# Altium schematic symbol library MCU_Microchip_PIC32.SchLib: 17 symbols
Pins are listed as number, name and electrical type; pins without a type are passive.

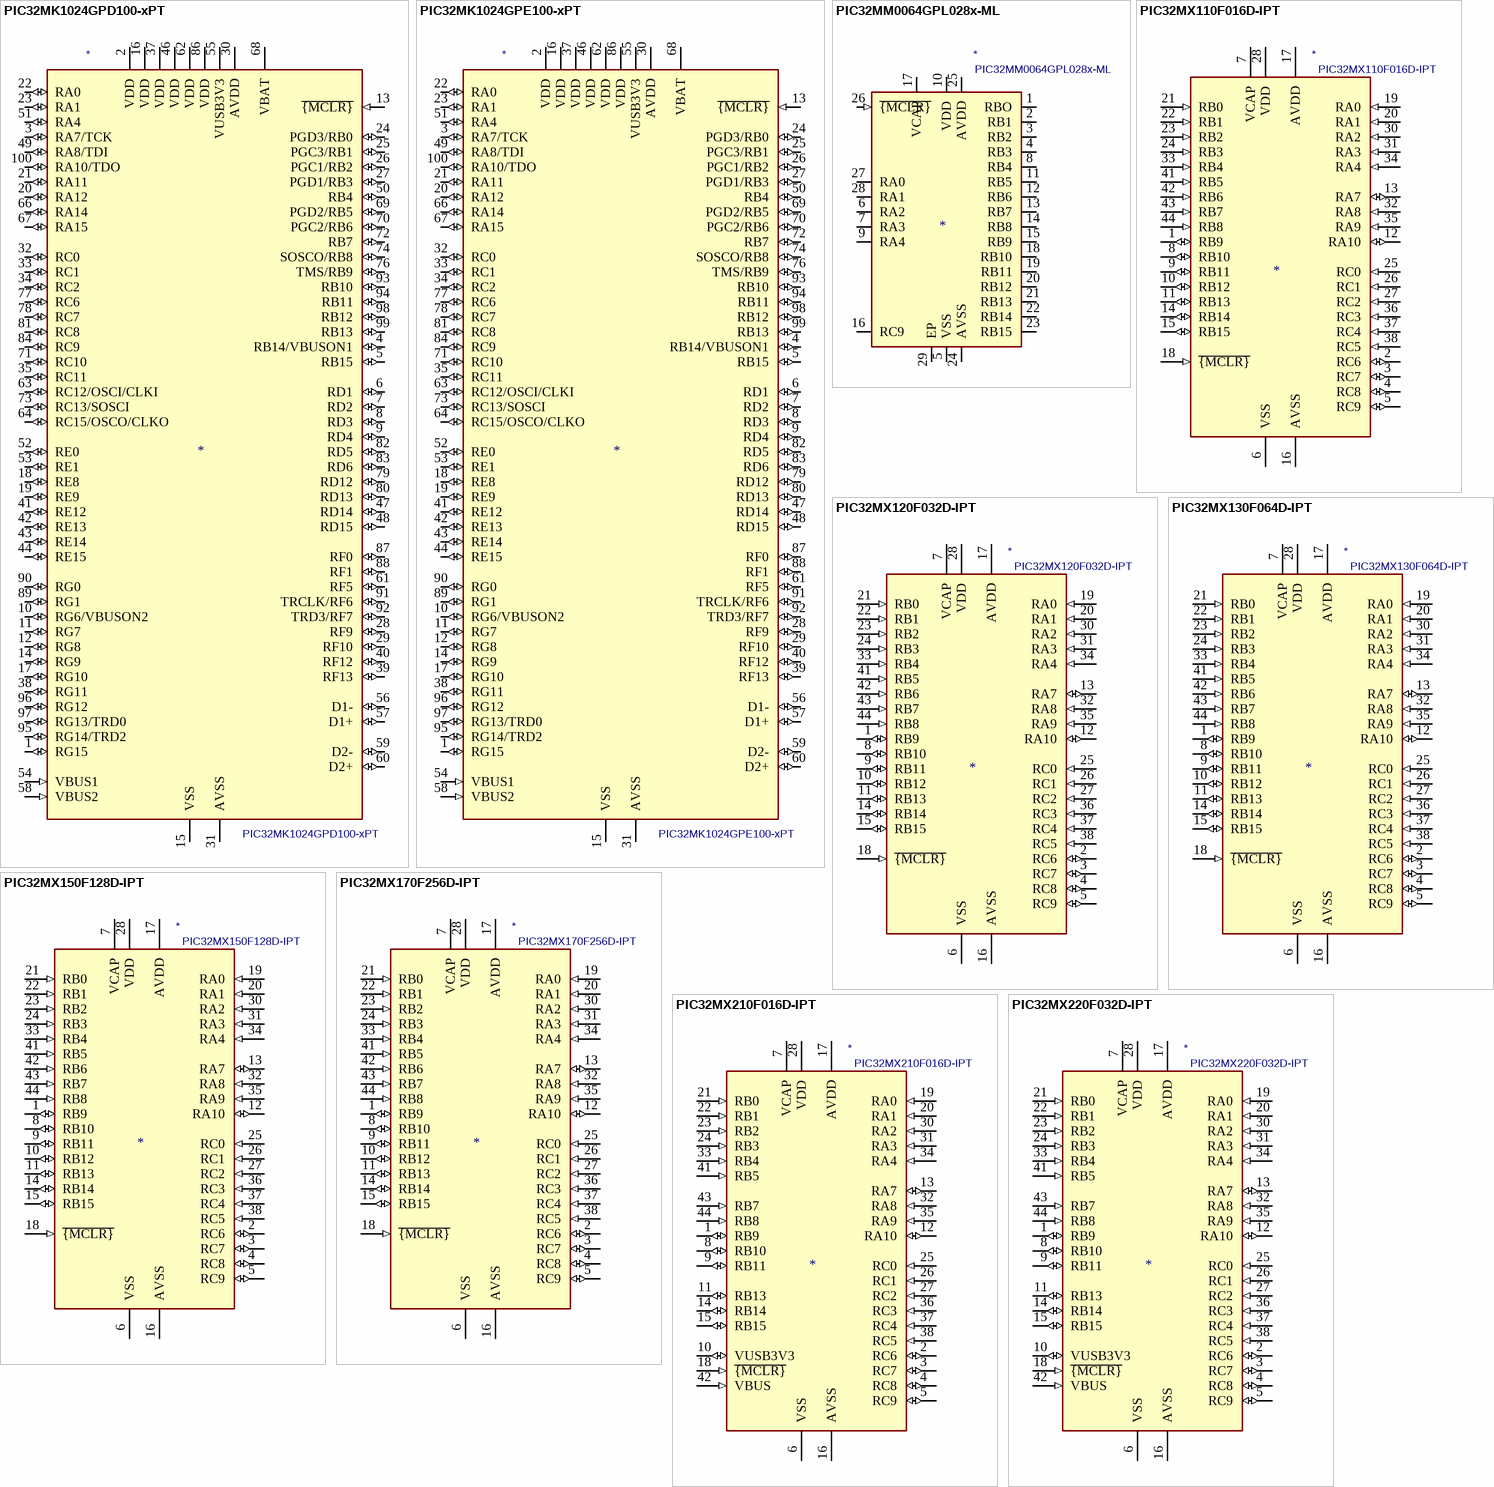
[diagram p0: symbols PIC32MK1024GPD100-xPT to PIC32MX220F032D-IPT]

## PIC32MK1024GPD100-xPT
designator *  value PIC32MK1024GPD100-xPT
ki_keywords: 32-bit MIPS MCU Microcontroller; ki_description: MIPS MCU, 120MHz, 1MB Flash, 256KB RAM, 2.3-3.6V, USB, TQFP-100; ki_fp_filters: TQFP*12x12mm*P0.4mm*; Footprint: Package_QFP:TQFP-100_12x12mm_P0.4mm; Supplier: http://ww1.microchip.com/downloads/en/DeviceDoc/PIC32MK_GP_MC_Familly_Datasheet_60001402G.pdf
footprint TQFP-100_12x12mm_P0.4mm
pins: 1 RG15 (io), 2 VDD (power), 3 RA7/TCK (io), 4 RB14/VBUSON1 (io), 5 RB15 (io), 6 RD1 (io), 7 RD2 (io), 8 RD3 (io), 9 RD4 (io), 10 RG6/VBUSON2 (io), 11 RG7 (io), 12 RG8 (io), 13 ~{{MCLR}} (in), 14 RG9 (io), 15 VSS (power), 16 VDD (power), 17 RG10 (io), 18 RE8 (io), 19 RE9 (io), 20 RA12 (io), 21 RA11 (io), 22 RA0 (io), 23 RA1 (io), 24 PGD3/RB0 (io), 25 PGC3/RB1 (io), 26 PGC1/RB2 (io), 27 PGD1/RB3 (io), 28 RF9 (io), 29 RF10 (io), 30 AVDD (power), 31 AVSS (power), 32 RC0 (io), 33 RC1 (io), 34 RC2 (io), 35 RC11 (io), 36 VSS hidden, 37 VDD (power), 38 RG11 (io), 39 RF13 (io), 40 RF12 (io), 41 RE12 (io), 42 RE13 (io), 43 RE14 (io), 44 RE15 (io), 45 VSS hidden, 46 VDD (power), 47 RD14 (io), 48 RD15 (io), 49 RA8/TDI (io), 50 RB4 (io), 51 RA4 (io), 52 RE0 (io), 53 RE1 (io), 54 VBUS1 (in), 55 VUSB3V3 (power), 56 D1- (io), 57 D1+ (io), 58 VBUS2 (in), 59 D2- (io), 60 D2+ (io), 61 RF5 (io), 62 VDD (power), 63 RC12/OSCI/CLKI (io), 64 RC15/OSCO/CLKO (io), 65 VSS hidden, 66 RA14 (io), 67 RA15 (io), 68 VBAT (power), 69 PGD2/RB5 (io), 70 PGC2/RB6 (io), 71 RC10 (io), 72 RB7 (io), 73 RC13/SOSCI (io), 74 SOSCO/RB8 (io), 75 VSS hidden, 76 TMS/RB9 (io), 77 RC6 (io), 78 RC7 (io), 79 RD12 (io), 80 RD13 (io), 81 RC8 (io), 82 RD5 (io), 83 RD6 (io), 84 RC9 (io), 85 VSS hidden, 86 VDD (power), 87 RF0 (io), 88 RF1 (io), 89 RG1 (io), 90 RG0 (io), 91 TRCLK/RF6 (io), 92 TRD3/RF7 (io), 93 RB10 (io), 94 RB11 (io), 95 RG14/TRD2 (io), 96 RG12 (io), 97 RG13/TRD0 (io), 98 RB12 (io), 99 RB13 (io), 100 RA10/TDO (io)

## PIC32MK1024GPE100-xPT
designator *  value PIC32MK1024GPE100-xPT
ki_keywords: 32-bit MIPS MCU Microcontroller; ki_description: MIPS MCU, 120MHz, 1MB Flash, 256KB RAM, 2.3-3.6V, USB, TQFP-100; ki_fp_filters: TQFP*12x12mm*P0.4mm*; Footprint: Package_QFP:TQFP-100_12x12mm_P0.4mm; Supplier: http://ww1.microchip.com/downloads/en/DeviceDoc/PIC32MK_GP_MC_Familly_Datasheet_60001402G.pdf
footprint TQFP-100_12x12mm_P0.4mm
pins: 1 RG15 (io), 2 VDD (power), 3 RA7/TCK (io), 4 RB14/VBUSON1 (io), 5 RB15 (io), 6 RD1 (io), 7 RD2 (io), 8 RD3 (io), 9 RD4 (io), 10 RG6/VBUSON2 (io), 11 RG7 (io), 12 RG8 (io), 13 ~{{MCLR}} (in), 14 RG9 (io), 15 VSS (power), 16 VDD (power), 17 RG10 (io), 18 RE8 (io), 19 RE9 (io), 20 RA12 (io), 21 RA11 (io), 22 RA0 (io), 23 RA1 (io), 24 PGD3/RB0 (io), 25 PGC3/RB1 (io), 26 PGC1/RB2 (io), 27 PGD1/RB3 (io), 28 RF9 (io), 29 RF10 (io), 30 AVDD (power), 31 AVSS (power), 32 RC0 (io), 33 RC1 (io), 34 RC2 (io), 35 RC11 (io), 36 VSS hidden, 37 VDD (power), 38 RG11 (io), 39 RF13 (io), 40 RF12 (io), 41 RE12 (io), 42 RE13 (io), 43 RE14 (io), 44 RE15 (io), 45 VSS hidden, 46 VDD (power), 47 RD14 (io), 48 RD15 (io), 49 RA8/TDI (io), 50 RB4 (io), 51 RA4 (io), 52 RE0 (io), 53 RE1 (io), 54 VBUS1 (in), 55 VUSB3V3 (power), 56 D1- (io), 57 D1+ (io), 58 VBUS2 (in), 59 D2- (io), 60 D2+ (io), 61 RF5 (io), 62 VDD (power), 63 RC12/OSCI/CLKI (io), 64 RC15/OSCO/CLKO (io), 65 VSS hidden, 66 RA14 (io), 67 RA15 (io), 68 VBAT (power), 69 PGD2/RB5 (io), 70 PGC2/RB6 (io), 71 RC10 (io), 72 RB7 (io), 73 RC13/SOSCI (io), 74 SOSCO/RB8 (io), 75 VSS hidden, 76 TMS/RB9 (io), 77 RC6 (io), 78 RC7 (io), 79 RD12 (io), 80 RD13 (io), 81 RC8 (io), 82 RD5 (io), 83 RD6 (io), 84 RC9 (io), 85 VSS hidden, 86 VDD (power), 87 RF0 (io), 88 RF1 (io), 89 RG1 (io), 90 RG0 (io), 91 TRCLK/RF6 (io), 92 TRD3/RF7 (io), 93 RB10 (io), 94 RB11 (io), 95 RG14/TRD2 (io), 96 RG12 (io), 97 RG13/TRD0 (io), 98 RB12 (io), 99 RB13 (io), 100 RA10/TDO (io)

## PIC32MM0064GPL028x-ML
designator *  value PIC32MM0064GPL028x-ML
ki_keywords: FLASH-Based 32-Bit CMOS Microcontroller; ki_description: 32-Bit Flash MCU, 25MHz, 64KB Flash, 8KB RAM, QFN-28; ki_fp_filters: QFN*1EP*6x6mm*P0.65mm*; Footprint: Package_DFN_QFN:QFN-28-1EP_6x6mm_P0.65mm_EP4.25x4.25mm; Supplier: http://ww1.microchip.com/downloads/en/DeviceDoc/PIC32MM0064GPL036-Family-Data-Sheet-DS60001324C.pdf
footprint QFN-28-1EP_6x6mm_P0.65mm_EP4.25x4.25mm
pins: 1 RBO (io), 2 RB1 (io), 3 RB2 (io), 4 RB3 (io), 5 VSS (power), 6 RA2 (io), 7 RA3 (io), 8 RB4 (io), 9 RA4 (io), 10 VDD (power), 11 RB5 (io), 12 RB6 (io), 13 RB7 (io), 14 RB8 (io), 15 RB9 (io), 16 RC9 (io), 17 VCAP (power), 18 RB10 (io), 19 RB11 (io), 20 RB12 (io), 21 RB13 (io), 22 RB14 (io), 23 RB15 (io), 24 AVSS (power), 25 AVDD (power), 26 ~{{MCLR}} (in), 27 RA0 (io), 28 RA1 (io), 29 EP

## PIC32MX110F016D-IPT
designator *  value PIC32MX110F016D-IPT
ki_keywords: Microchip PIC32 Microcontroller MIPS; ki_description: 32-bit Microcontrollers (16KB Flash and 4KB SRAM TQFP-44) with Audio and Graphics Interfaces, USB, and Advanced Analog; ki_fp_filters: TQFP*10x10mm*P0.8mm*; Footprint: Package_QFP:TQFP-44_10x10mm_P0.8mm; Supplier: http://ww1.microchip.com/downloads/en/DeviceDoc/60001168F.pdf
footprint TQFP-44_10x10mm_P0.8mm
pins: 1 RB9 (io), 2 RC6 (io), 3 RC7 (io), 4 RC8 (io), 5 RC9 (io), 6 VSS (power), 7 VCAP (power), 8 RB10 (io), 9 RB11 (io), 10 RB12 (io), 11 RB13 (io), 12 RA10 (io), 13 RA7 (io), 14 RB14 (io), 15 RB15 (io), 16 AVSS (power), 17 AVDD (power), 18 ~{{MCLR}} (in), 19 RA0 (in), 20 RA1 (in), 21 RB0 (in), 22 RB1 (in), 23 RB2 (in), 24 RB3 (in), 25 RC0 (in), 26 RC1 (in), 27 RC2 (in), 28 VDD (power), 29 VSS hidden, 30 RA2 (in), 31 RA3 (in), 32 RA8 (in), 33 RB4 (in), 34 RA4 (in), 35 RA9 (in), 36 RC3 (in), 37 RC4 (in), 38 RC5 (in), 39 VSS hidden, 40 VDD hidden, 41 RB5 (in), 42 RB6 (in), 43 RB7 (in), 44 RB8 (in)

## PIC32MX120F032D-IPT
designator *  value PIC32MX120F032D-IPT
ki_keywords: Microchip PIC32 Microcontroller MIPS; ki_description: 32-bit Microcontrollers (32KB Flash and 8KB SRAM TQFP-44) with Audio and Graphics Interfaces, USB, and Advanced Analog; ki_fp_filters: TQFP*10x10mm*P0.8mm*; Footprint: Package_QFP:TQFP-44_10x10mm_P0.8mm; Supplier: http://ww1.microchip.com/downloads/en/DeviceDoc/60001168F.pdf
footprint TQFP-44_10x10mm_P0.8mm
pins: 1 RB9 (io), 2 RC6 (io), 3 RC7 (io), 4 RC8 (io), 5 RC9 (io), 6 VSS (power), 7 VCAP (power), 8 RB10 (io), 9 RB11 (io), 10 RB12 (io), 11 RB13 (io), 12 RA10 (io), 13 RA7 (io), 14 RB14 (io), 15 RB15 (io), 16 AVSS (power), 17 AVDD (power), 18 ~{{MCLR}} (in), 19 RA0 (in), 20 RA1 (in), 21 RB0 (in), 22 RB1 (in), 23 RB2 (in), 24 RB3 (in), 25 RC0 (in), 26 RC1 (in), 27 RC2 (in), 28 VDD (power), 29 VSS hidden, 30 RA2 (in), 31 RA3 (in), 32 RA8 (in), 33 RB4 (in), 34 RA4 (in), 35 RA9 (in), 36 RC3 (in), 37 RC4 (in), 38 RC5 (in), 39 VSS hidden, 40 VDD hidden, 41 RB5 (in), 42 RB6 (in), 43 RB7 (in), 44 RB8 (in)

## PIC32MX130F064D-IPT
designator *  value PIC32MX130F064D-IPT
ki_keywords: Microchip PIC32 Microcontroller MIPS; ki_description: 32-bit Microcontrollers (64KB Flash and 16KB SRAM TQFP-44) with Audio and Graphics Interfaces, USB, and Advanced Analog; ki_fp_filters: TQFP*10x10mm*P0.8mm*; Footprint: Package_QFP:TQFP-44_10x10mm_P0.8mm; Supplier: http://ww1.microchip.com/downloads/en/DeviceDoc/60001168F.pdf
footprint TQFP-44_10x10mm_P0.8mm
pins: 1 RB9 (io), 2 RC6 (io), 3 RC7 (io), 4 RC8 (io), 5 RC9 (io), 6 VSS (power), 7 VCAP (power), 8 RB10 (io), 9 RB11 (io), 10 RB12 (io), 11 RB13 (io), 12 RA10 (io), 13 RA7 (io), 14 RB14 (io), 15 RB15 (io), 16 AVSS (power), 17 AVDD (power), 18 ~{{MCLR}} (in), 19 RA0 (in), 20 RA1 (in), 21 RB0 (in), 22 RB1 (in), 23 RB2 (in), 24 RB3 (in), 25 RC0 (in), 26 RC1 (in), 27 RC2 (in), 28 VDD (power), 29 VSS hidden, 30 RA2 (in), 31 RA3 (in), 32 RA8 (in), 33 RB4 (in), 34 RA4 (in), 35 RA9 (in), 36 RC3 (in), 37 RC4 (in), 38 RC5 (in), 39 VSS hidden, 40 VDD hidden, 41 RB5 (in), 42 RB6 (in), 43 RB7 (in), 44 RB8 (in)

## PIC32MX150F128D-IPT
designator *  value PIC32MX150F128D-IPT
ki_keywords: Microchip PIC32 Microcontroller MIPS; ki_description: 32-bit Microcontrollers (128KB Flash and 32KB SRAM TQFP-44) with Audio and Graphics Interfaces, USB, and Advanced Analog; ki_fp_filters: TQFP*10x10mm*P0.8mm*; Footprint: Package_QFP:TQFP-44_10x10mm_P0.8mm; Supplier: http://ww1.microchip.com/downloads/en/DeviceDoc/60001168F.pdf
footprint TQFP-44_10x10mm_P0.8mm
pins: 1 RB9 (io), 2 RC6 (io), 3 RC7 (io), 4 RC8 (io), 5 RC9 (io), 6 VSS (power), 7 VCAP (power), 8 RB10 (io), 9 RB11 (io), 10 RB12 (io), 11 RB13 (io), 12 RA10 (io), 13 RA7 (io), 14 RB14 (io), 15 RB15 (io), 16 AVSS (power), 17 AVDD (power), 18 ~{{MCLR}} (in), 19 RA0 (in), 20 RA1 (in), 21 RB0 (in), 22 RB1 (in), 23 RB2 (in), 24 RB3 (in), 25 RC0 (in), 26 RC1 (in), 27 RC2 (in), 28 VDD (power), 29 VSS hidden, 30 RA2 (in), 31 RA3 (in), 32 RA8 (in), 33 RB4 (in), 34 RA4 (in), 35 RA9 (in), 36 RC3 (in), 37 RC4 (in), 38 RC5 (in), 39 VSS hidden, 40 VDD hidden, 41 RB5 (in), 42 RB6 (in), 43 RB7 (in), 44 RB8 (in)

## PIC32MX170F256D-IPT
designator *  value PIC32MX170F256D-IPT
ki_keywords: Microchip PIC32 Microcontroller MIPS; ki_description: 32-bit Microcontrollers (256KB Flash and 64KB SRAM TQFP-44) with Audio and Graphics Interfaces, USB, and Advanced Analog; ki_fp_filters: TQFP*10x10mm*P0.8mm*; Footprint: Package_QFP:TQFP-44_10x10mm_P0.8mm; Supplier: http://ww1.microchip.com/downloads/en/DeviceDoc/60001168F.pdf
footprint TQFP-44_10x10mm_P0.8mm
pins: 1 RB9 (io), 2 RC6 (io), 3 RC7 (io), 4 RC8 (io), 5 RC9 (io), 6 VSS (power), 7 VCAP (power), 8 RB10 (io), 9 RB11 (io), 10 RB12 (io), 11 RB13 (io), 12 RA10 (io), 13 RA7 (io), 14 RB14 (io), 15 RB15 (io), 16 AVSS (power), 17 AVDD (power), 18 ~{{MCLR}} (in), 19 RA0 (in), 20 RA1 (in), 21 RB0 (in), 22 RB1 (in), 23 RB2 (in), 24 RB3 (in), 25 RC0 (in), 26 RC1 (in), 27 RC2 (in), 28 VDD (power), 29 VSS hidden, 30 RA2 (in), 31 RA3 (in), 32 RA8 (in), 33 RB4 (in), 34 RA4 (in), 35 RA9 (in), 36 RC3 (in), 37 RC4 (in), 38 RC5 (in), 39 VSS hidden, 40 VDD hidden, 41 RB5 (in), 42 RB6 (in), 43 RB7 (in), 44 RB8 (in)

## PIC32MX210F016D-IPT
designator *  value PIC32MX210F016D-IPT
ki_keywords: Microchip PIC32 Microcontroller MIPS; ki_description: 32-bit Microcontrollers (16KB Flash and 4KB SRAM TQFP-44) with Audio and Graphics Interfaces, USB, and Advanced Analog; ki_fp_filters: TQFP*10x10mm*P0.8mm*; Footprint: Package_QFP:TQFP-44_10x10mm_P0.8mm; Supplier: http://ww1.microchip.com/downloads/en/DeviceDoc/60001168F.pdf
footprint TQFP-44_10x10mm_P0.8mm
pins: 1 RB9 (io), 2 RC6 (io), 3 RC7 (io), 4 RC8 (io), 5 RC9 (io), 6 VSS (power), 7 VCAP (power), 8 RB10 (io), 9 RB11 (io), 10 VUSB3V3 (io), 11 RB13 (io), 12 RA10 (io), 13 RA7 (io), 14 RB14 (io), 15 RB15 (io), 16 AVSS (power), 17 AVDD (power), 18 ~{{MCLR}} (in), 19 RA0 (in), 20 RA1 (in), 21 RB0 (in), 22 RB1 (in), 23 RB2 (in), 24 RB3 (in), 25 RC0 (in), 26 RC1 (in), 27 RC2 (in), 28 VDD (power), 29 VSS hidden, 30 RA2 (in), 31 RA3 (in), 32 RA8 (in), 33 RB4 (in), 34 RA4 (in), 35 RA9 (in), 36 RC3 (in), 37 RC4 (in), 38 RC5 (in), 39 VSS hidden, 40 VDD hidden, 41 RB5 (in), 42 VBUS (in), 43 RB7 (in), 44 RB8 (in)

## PIC32MX220F032D-IPT
designator *  value PIC32MX220F032D-IPT
ki_keywords: Microchip PIC32 Microcontroller MIPS; ki_description: 32-bit Microcontrollers (32KB Flash and 8KB SRAM TQFP-44) with Audio and Graphics Interfaces, USB, and Advanced Analog; ki_fp_filters: TQFP*10x10mm*P0.8mm*; Footprint: Package_QFP:TQFP-44_10x10mm_P0.8mm; Supplier: http://ww1.microchip.com/downloads/en/DeviceDoc/60001168F.pdf
footprint TQFP-44_10x10mm_P0.8mm
pins: 1 RB9 (io), 2 RC6 (io), 3 RC7 (io), 4 RC8 (io), 5 RC9 (io), 6 VSS (power), 7 VCAP (power), 8 RB10 (io), 9 RB11 (io), 10 VUSB3V3 (io), 11 RB13 (io), 12 RA10 (io), 13 RA7 (io), 14 RB14 (io), 15 RB15 (io), 16 AVSS (power), 17 AVDD (power), 18 ~{{MCLR}} (in), 19 RA0 (in), 20 RA1 (in), 21 RB0 (in), 22 RB1 (in), 23 RB2 (in), 24 RB3 (in), 25 RC0 (in), 26 RC1 (in), 27 RC2 (in), 28 VDD (power), 29 VSS hidden, 30 RA2 (in), 31 RA3 (in), 32 RA8 (in), 33 RB4 (in), 34 RA4 (in), 35 RA9 (in), 36 RC3 (in), 37 RC4 (in), 38 RC5 (in), 39 VSS hidden, 40 VDD hidden, 41 RB5 (in), 42 VBUS (in), 43 RB7 (in), 44 RB8 (in)

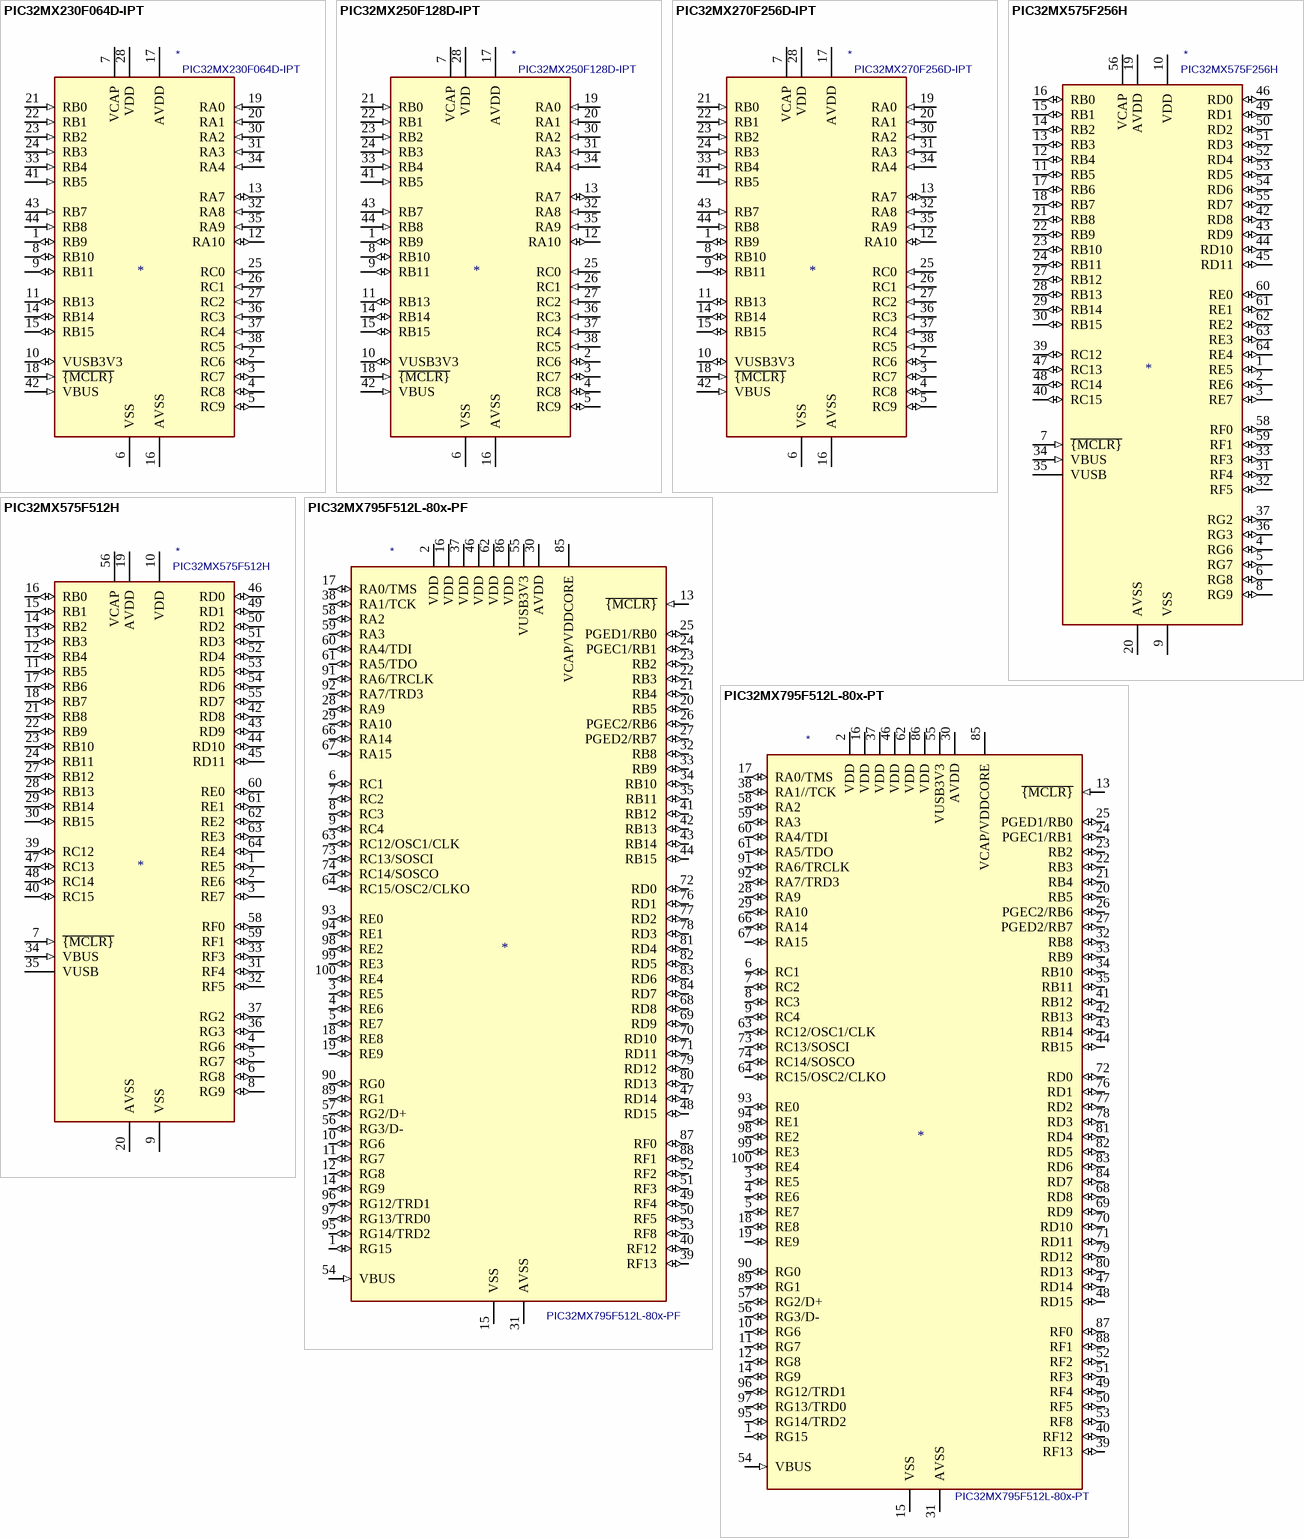
[diagram p1: symbols PIC32MX230F064D-IPT to PIC32MX795F512L-80x-PT]

## PIC32MX230F064D-IPT
designator *  value PIC32MX230F064D-IPT
ki_keywords: Microchip PIC32 Microcontroller MIPS; ki_description: 32-bit Microcontrollers (64KB Flash and 16KB SRAM TQFP-44) with Audio and Graphics Interfaces, USB, and Advanced Analog; ki_fp_filters: TQFP*10x10mm*P0.8mm*; Footprint: Package_QFP:TQFP-44_10x10mm_P0.8mm; Supplier: http://ww1.microchip.com/downloads/en/DeviceDoc/60001168F.pdf
footprint TQFP-44_10x10mm_P0.8mm
pins: 1 RB9 (io), 2 RC6 (io), 3 RC7 (io), 4 RC8 (io), 5 RC9 (io), 6 VSS (power), 7 VCAP (power), 8 RB10 (io), 9 RB11 (io), 10 VUSB3V3 (io), 11 RB13 (io), 12 RA10 (io), 13 RA7 (io), 14 RB14 (io), 15 RB15 (io), 16 AVSS (power), 17 AVDD (power), 18 ~{{MCLR}} (in), 19 RA0 (in), 20 RA1 (in), 21 RB0 (in), 22 RB1 (in), 23 RB2 (in), 24 RB3 (in), 25 RC0 (in), 26 RC1 (in), 27 RC2 (in), 28 VDD (power), 29 VSS hidden, 30 RA2 (in), 31 RA3 (in), 32 RA8 (in), 33 RB4 (in), 34 RA4 (in), 35 RA9 (in), 36 RC3 (in), 37 RC4 (in), 38 RC5 (in), 39 VSS hidden, 40 VDD hidden, 41 RB5 (in), 42 VBUS (in), 43 RB7 (in), 44 RB8 (in)

## PIC32MX250F128D-IPT
designator *  value PIC32MX250F128D-IPT
ki_keywords: Microchip PIC32 Microcontroller MIPS; ki_description: 32-bit Microcontrollers (128KB Flash and 32KB SRAM TQFP-44) with Audio and Graphics Interfaces, USB, and Advanced Analog; ki_fp_filters: TQFP*10x10mm*P0.8mm*; Footprint: Package_QFP:TQFP-44_10x10mm_P0.8mm; Supplier: http://ww1.microchip.com/downloads/en/DeviceDoc/60001168F.pdf
footprint TQFP-44_10x10mm_P0.8mm
pins: 1 RB9 (io), 2 RC6 (io), 3 RC7 (io), 4 RC8 (io), 5 RC9 (io), 6 VSS (power), 7 VCAP (power), 8 RB10 (io), 9 RB11 (io), 10 VUSB3V3 (io), 11 RB13 (io), 12 RA10 (io), 13 RA7 (io), 14 RB14 (io), 15 RB15 (io), 16 AVSS (power), 17 AVDD (power), 18 ~{{MCLR}} (in), 19 RA0 (in), 20 RA1 (in), 21 RB0 (in), 22 RB1 (in), 23 RB2 (in), 24 RB3 (in), 25 RC0 (in), 26 RC1 (in), 27 RC2 (in), 28 VDD (power), 29 VSS hidden, 30 RA2 (in), 31 RA3 (in), 32 RA8 (in), 33 RB4 (in), 34 RA4 (in), 35 RA9 (in), 36 RC3 (in), 37 RC4 (in), 38 RC5 (in), 39 VSS hidden, 40 VDD hidden, 41 RB5 (in), 42 VBUS (in), 43 RB7 (in), 44 RB8 (in)

## PIC32MX270F256D-IPT
designator *  value PIC32MX270F256D-IPT
ki_keywords: Microchip PIC32 Microcontroller MIPS; ki_description: 32-bit Microcontrollers (256KB Flash and 64KB SRAM TQFP-44) with Audio and Graphics Interfaces, USB, and Advanced Analog; ki_fp_filters: TQFP*10x10mm*P0.8mm*; Footprint: Package_QFP:TQFP-44_10x10mm_P0.8mm; Supplier: http://ww1.microchip.com/downloads/en/DeviceDoc/60001168F.pdf
footprint TQFP-44_10x10mm_P0.8mm
pins: 1 RB9 (io), 2 RC6 (io), 3 RC7 (io), 4 RC8 (io), 5 RC9 (io), 6 VSS (power), 7 VCAP (power), 8 RB10 (io), 9 RB11 (io), 10 VUSB3V3 (io), 11 RB13 (io), 12 RA10 (io), 13 RA7 (io), 14 RB14 (io), 15 RB15 (io), 16 AVSS (power), 17 AVDD (power), 18 ~{{MCLR}} (in), 19 RA0 (in), 20 RA1 (in), 21 RB0 (in), 22 RB1 (in), 23 RB2 (in), 24 RB3 (in), 25 RC0 (in), 26 RC1 (in), 27 RC2 (in), 28 VDD (power), 29 VSS hidden, 30 RA2 (in), 31 RA3 (in), 32 RA8 (in), 33 RB4 (in), 34 RA4 (in), 35 RA9 (in), 36 RC3 (in), 37 RC4 (in), 38 RC5 (in), 39 VSS hidden, 40 VDD hidden, 41 RB5 (in), 42 VBUS (in), 43 RB7 (in), 44 RB8 (in)

## PIC32MX575F256H
designator *  value PIC32MX575F256H
ki_keywords: Microchip PIC32 Microcontroller MIPS; ki_description: 32-bit Microcontrollers (64KB Flash and 16KB SRAM TQFP-64 QFN-64) USB, CAN and Ethernet; ki_fp_filters: Package*QFP:QFP*10x10mm*P0.5mm* Package*DFN*QFN:QFN*1EP*9x9mm*P0.5mm*; Supplier: http://ww1.microchip.com/downloads/en/DeviceDoc/61156G.pdf
pins: 1 RE5 (io), 2 RE6 (io), 3 RE7 (io), 4 RG6 (io), 5 RG7 (io), 6 RG8 (io), 7 ~{{MCLR}} (in), 8 RG9 (io), 9 VSS (power), 10 VDD (power), 11 RB5 (io), 12 RB4 (io), 13 RB3 (io), 14 RB2 (io), 15 RB1 (io), 16 RB0 (io), 17 RB6 (io), 18 RB7 (io), 19 AVDD (power), 20 AVSS (power), 21 RB8 (io), 22 RB9 (io), 23 RB10 (io), 24 RB11 (io), 25 VSS hidden, 26 VDD hidden, 27 RB12 (io), 28 RB13 (io), 29 RB14 (io), 30 RB15 (io), 31 RF4 (io), 32 RF5 (io), 33 RF3 (io), 34 VBUS (in), 35 VUSB (power), 36 RG3 (io), 37 RG2 (io), 38 VDD hidden, 39 RC12 (io), 40 RC15 (io), 41 VSS hidden, 42 RD8 (io), 43 RD9 (io), 44 RD10 (io), 45 RD11 (io), 46 RD0 (io), 47 RC13 (io), 48 RC14 (io), 49 RD1 (io), 50 RD2 (io), 51 RD3 (io), 52 RD4 (io), 53 RD5 (io), 54 RD6 (io), 55 RD7 (io), 56 VCAP (power), 57 VDD hidden, 58 RF0 (io), 59 RF1 (io), 60 RE0 (io), 61 RE1 (io), 62 RE2 (io), 63 RE3 (io), 64 RE4 (io)

## PIC32MX575F512H
designator *  value PIC32MX575F512H
ki_keywords: Microchip PIC32 Microcontroller MIPS; ki_description: 32-bit Microcontrollers (64KB Flash and 16KB SRAM TQFP-64 QFN-64) USB, CAN and Ethernet; ki_fp_filters: Package*QFP:QFP*10x10mm*P0.5mm* Package*DFN*QFN:QFN*1EP*9x9mm*P0.5mm*; Supplier: http://ww1.microchip.com/downloads/en/DeviceDoc/61156G.pdf
pins: 1 RE5 (io), 2 RE6 (io), 3 RE7 (io), 4 RG6 (io), 5 RG7 (io), 6 RG8 (io), 7 ~{{MCLR}} (in), 8 RG9 (io), 9 VSS (power), 10 VDD (power), 11 RB5 (io), 12 RB4 (io), 13 RB3 (io), 14 RB2 (io), 15 RB1 (io), 16 RB0 (io), 17 RB6 (io), 18 RB7 (io), 19 AVDD (power), 20 AVSS (power), 21 RB8 (io), 22 RB9 (io), 23 RB10 (io), 24 RB11 (io), 25 VSS hidden, 26 VDD hidden, 27 RB12 (io), 28 RB13 (io), 29 RB14 (io), 30 RB15 (io), 31 RF4 (io), 32 RF5 (io), 33 RF3 (io), 34 VBUS (in), 35 VUSB (power), 36 RG3 (io), 37 RG2 (io), 38 VDD hidden, 39 RC12 (io), 40 RC15 (io), 41 VSS hidden, 42 RD8 (io), 43 RD9 (io), 44 RD10 (io), 45 RD11 (io), 46 RD0 (io), 47 RC13 (io), 48 RC14 (io), 49 RD1 (io), 50 RD2 (io), 51 RD3 (io), 52 RD4 (io), 53 RD5 (io), 54 RD6 (io), 55 RD7 (io), 56 VCAP (power), 57 VDD hidden, 58 RF0 (io), 59 RF1 (io), 60 RE0 (io), 61 RE1 (io), 62 RE2 (io), 63 RE3 (io), 64 RE4 (io)

## PIC32MX795F512L-80x-PF
designator *  value PIC32MX795F512L-80x-PF
ki_keywords: 32-bit MIPS MCU Microcontroller; ki_description: MIPS MCU, 80MHz, 512KB Flash, 12KB Boot Flash, 128KB RAM, 2.3-3.6V, USB, CAN, Ethernet, TQFP-100; ki_fp_filters: TQFP*14x14mm*P0.5mm*; Footprint: Package_QFP:TQFP-100_14x14mm_P0.5mm; Supplier: http://ww1.microchip.com/downloads/en/DeviceDoc/60001156J.pdf
footprint TQFP-100_14x14mm_P0.5mm
pins: 1 RG15 (io), 2 VDD (power), 3 RE5 (io), 4 RE6 (io), 5 RE7 (io), 6 RC1 (io), 7 RC2 (io), 8 RC3 (io), 9 RC4 (io), 10 RG6 (io), 11 RG7 (io), 12 RG8 (io), 13 ~{{MCLR}} (in), 14 RG9 (io), 15 VSS (power), 16 VDD (power), 17 RA0/TMS (io), 18 RE8 (io), 19 RE9 (io), 20 RB5 (io), 21 RB4 (io), 22 RB3 (io), 23 RB2 (io), 24 PGEC1/RB1 (io), 25 PGED1/RB0 (io), 26 PGEC2/RB6 (io), 27 PGED2/RB7 (io), 28 RA9 (io), 29 RA10 (io), 30 AVDD (power), 31 AVSS (power), 32 RB8 (io), 33 RB9 (io), 34 RB10 (io), 35 RB11 (io), 36 VSS hidden, 37 VDD (power), 38 RA1/TCK (io), 39 RF13 (io), 40 RF12 (io), 41 RB12 (io), 42 RB13 (io), 43 RB14 (io), 44 RB15 (io), 45 VSS hidden, 46 VDD (power), 47 RD14 (io), 48 RD15 (io), 49 RF4 (io), 50 RF5 (io), 51 RF3 (io), 52 RF2 (io), 53 RF8 (io), 54 VBUS (in), 55 VUSB3V3 (power), 56 RG3/D- (io), 57 RG2/D+ (io), 58 RA2 (io), 59 RA3 (io), 60 RA4/TDI (io), 61 RA5/TDO (io), 62 VDD (power), 63 RC12/OSC1/CLK (io), 64 RC15/OSC2/CLKO (io), 65 VSS hidden, 66 RA14 (io), 67 RA15 (io), 68 RD8 (io), 69 RD9 (io), 70 RD10 (io), 71 RD11 (io), 72 RD0 (io), 73 RC13/SOSCI (io), 74 RC14/SOSCO (io), 75 VSS hidden, 76 RD1 (io), 77 RD2 (io), 78 RD3 (io), 79 RD12 (io), 80 RD13 (io), 81 RD4 (io), 82 RD5 (io), 83 RD6 (io), 84 RD7 (io), 85 VCAP/VDDCORE (power), 86 VDD (power), 87 RF0 (io), 88 RF1 (io), 89 RG1 (io), 90 RG0 (io), 91 RA6/TRCLK (io), 92 RA7/TRD3 (io), 93 RE0 (io), 94 RE1 (io), 95 RG14/TRD2 (io), 96 RG12/TRD1 (io), 97 RG13/TRD0 (io), 98 RE2 (io), 99 RE3 (io), 100 RE4 (io)

## PIC32MX795F512L-80x-PT
designator *  value PIC32MX795F512L-80x-PT
ki_keywords: 32-bit MIPS MCU Microcontroller; ki_description: MIPS MCU, 80MHz, 512KB Flash, 12KB Boot Flash, 128KB RAM, 2.3-3.6V, USB, CAN, Ethernet, TQFP-100; ki_fp_filters: TQFP*12x12mm*P0.4mm*; Footprint: Package_QFP:TQFP-100_12x12mm_P0.4mm; Supplier: http://ww1.microchip.com/downloads/en/DeviceDoc/60001156J.pdf
footprint TQFP-100_12x12mm_P0.4mm
pins: 1 RG15 (io), 2 VDD (power), 3 RE5 (io), 4 RE6 (io), 5 RE7 (io), 6 RC1 (io), 7 RC2 (io), 8 RC3 (io), 9 RC4 (io), 10 RG6 (io), 11 RG7 (io), 12 RG8 (io), 13 ~{{MCLR}} (in), 14 RG9 (io), 15 VSS (power), 16 VDD (power), 17 RA0/TMS (io), 18 RE8 (io), 19 RE9 (io), 20 RB5 (io), 21 RB4 (io), 22 RB3 (io), 23 RB2 (io), 24 PGEC1/RB1 (io), 25 PGED1/RB0 (io), 26 PGEC2/RB6 (io), 27 PGED2/RB7 (io), 28 RA9 (io), 29 RA10 (io), 30 AVDD (power), 31 AVSS (power), 32 RB8 (io), 33 RB9 (io), 34 RB10 (io), 35 RB11 (io), 36 VSS hidden, 37 VDD (power), 38 RA1//TCK (io), 39 RF13 (io), 40 RF12 (io), 41 RB12 (io), 42 RB13 (io), 43 RB14 (io), 44 RB15 (io), 45 VSS hidden, 46 VDD (power), 47 RD14 (io), 48 RD15 (io), 49 RF4 (io), 50 RF5 (io), 51 RF3 (io), 52 RF2 (io), 53 RF8 (io), 54 VBUS (in), 55 VUSB3V3 (power), 56 RG3/D- (io), 57 RG2/D+ (io), 58 RA2 (io), 59 RA3 (io), 60 RA4/TDI (io), 61 RA5/TDO (io), 62 VDD (power), 63 RC12/OSC1/CLK (io), 64 RC15/OSC2/CLKO (io), 65 VSS hidden, 66 RA14 (io), 67 RA15 (io), 68 RD8 (io), 69 RD9 (io), 70 RD10 (io), 71 RD11 (io), 72 RD0 (io), 73 RC13/SOSCI (io), 74 RC14/SOSCO (io), 75 VSS hidden, 76 RD1 (io), 77 RD2 (io), 78 RD3 (io), 79 RD12 (io), 80 RD13 (io), 81 RD4 (io), 82 RD5 (io), 83 RD6 (io), 84 RD7 (io), 85 VCAP/VDDCORE (power), 86 VDD (power), 87 RF0 (io), 88 RF1 (io), 89 RG1 (io), 90 RG0 (io), 91 RA6/TRCLK (io), 92 RA7/TRD3 (io), 93 RE0 (io), 94 RE1 (io), 95 RG14/TRD2 (io), 96 RG12/TRD1 (io), 97 RG13/TRD0 (io), 98 RE2 (io), 99 RE3 (io), 100 RE4 (io)